# Altium schematic symbol library SN65HVD233 3.3V CAN Bus Transceivers.SchLib: 1 symbol
Pins are listed as number, name and electrical type; pins without a type are passive.

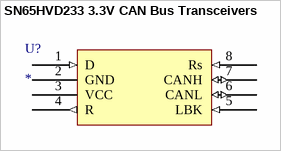
[diagram p0: symbol SN65HVD233 3.3V CAN Bus Transceivers]

## SN65HVD233 3.3V CAN Bus Transceivers
designator U?
pins: 1 D (in), 2 GND (power), 3 VCC (power), 4 R (out), 5 LBK (in), 6 CANL (io), 7 CANH (io), 8 Rs (in)